# Altium footprint library SMA_conn.PcbLib: 1 footprints
Each footprint in its own frame and in the unit in brackets; x right, y up, seen from the top. Pads: shape width x height; smd on the part's side, far side on the other; paste and mask are expansions set on the pad; w line width, h text height; cw(c..) or ccw(c..) is an arc to the next point about the centre after c.
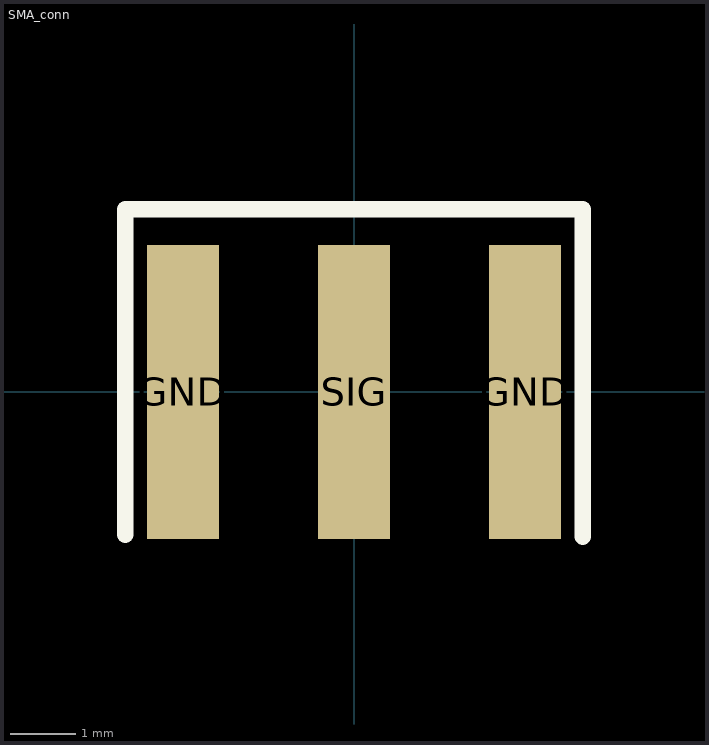
[diagram p0: the footprint, top view; thin cyan lines are the x and y axes]

## SMA_conn [mm]
pads (3):
  rect 1.1x4.5 smd: GND(-2.62,0) GND(2.62,0) SIG(0,0)
Top Overlay:
  lines w0.254: -3.5,-2.187 -3.5,2.794 -1.877,2.794 1.623,2.794 3.5,2.794 3.5,-2.215